# Altium schematic symbol library TI.SchLib: 6 symbols
Pins are listed as number, name and electrical type; pins without a type are passive.

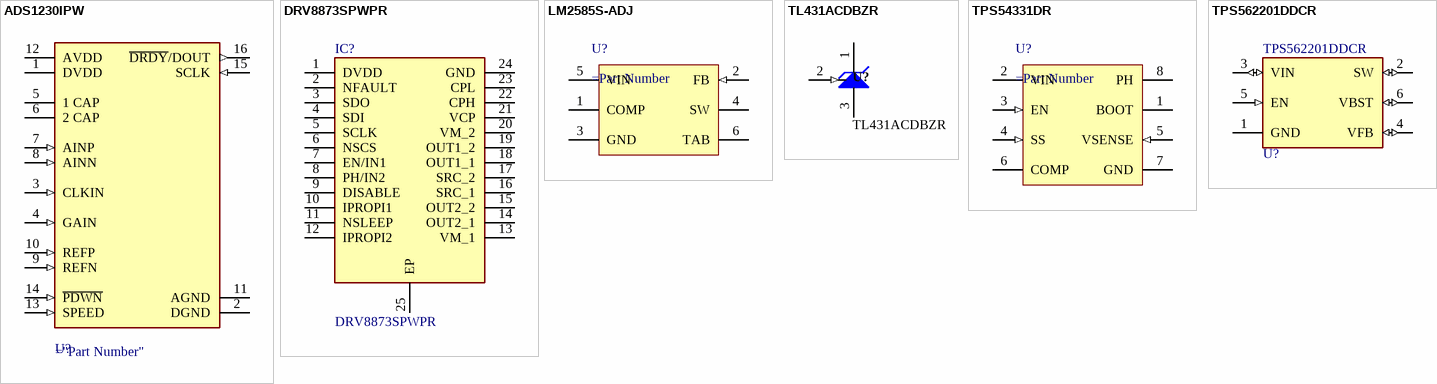
[diagram p0: symbols ADS1230IPW to TPS562201DDCR]

## ADS1230IPW
designator U?
pins: 1 DVDD (power), 2 DGND (power), 3 CLKIN (in), 4 GAIN (in), 5 1 CAP, 6 2 CAP, 7 AINP (in), 8 AINN (in), 9 REFN (in), 10 REFP (in), 11 AGND (power), 12 AVDD (power), 13 SPEED (in), 14 ~{PDWN} (in), 15 SCLK (in), 16 ~{DRDY}/DOUT (out)

## DRV8873SPWPR
designator IC?
Integrated Circuit; Manufacturer_Name: Texas Instruments; Datasheet Link: http://www.ti.com/lit/ds/symlink/drv8873.pdf; Height: 1.2mm; Manufacturer_Part_Number: DRV8873SPWPR; Mouser Part Number: 595-DRV8873SPWPR; Mouser Price/Stock: https://www.mouser.co.uk/ProductDetail/Texas-Instruments/DRV8873SPWPR?qs=0lSvoLzn4L%2FOilSh2RhZEg%3D%3D; Arrow Part Number: DRV8873SPWPR; Arrow Price/Stock: https://www.arrow.com/en/products/drv8873spwpr/texas-instruments?region=nac
pins: 1 DVDD, 2 NFAULT, 3 SDO, 4 SDI, 5 SCLK, 6 NSCS, 7 EN/IN1, 8 PH/IN2, 9 DISABLE, 10 IPROPI1, 11 NSLEEP, 12 IPROPI2, 13 VM_1, 14 OUT2_1, 15 OUT2_2, 16 SRC_1, 17 SRC_2, 18 OUT1_1, 19 OUT1_2, 20 VM_2, 21 VCP, 22 CPH, 23 CPL, 24 GND, 25 EP

## LM2585S-ADJ
designator U?
pins: 1 COMP, 2 FB (in), 3 GND (power), 4 SW (power), 5 VIN (power), 6 TAB

## TL431ACDBZR
designator U?
footprint TI-DBZ3_N
pins: 1 CATHODE, 2 REF (in), 3 ANODE

## TPS54331DR
designator U?
pins: 1 BOOT "A 0.1 uF bootstrap capacitor is required between BOOT and PH. If the voltage on this capacitor falls below the minimum requirement, the high-side MOSFET is forced to switch off until the capacitor is refreshed", 2 VIN (power) "Input supply voltage, 3.5 V to 28 V.", 3 EN (in) "Enable pin. Pull below 1.25V to disable. Float to enable. Programming the input undervoltage lockout with two resistors is recommended.", 4 SS (in) "Slow start pin. An external capacitor connected to this pin sets the output rise time.", 5 VSENSE (in) "Inverting node of the gm error amplifier.", 6 COMP "Error amplifier output, and input to the PWM comparator. Connect frequency compensation components to this pin.", 7 GND (power) "Ground", 8 PH (power) "The source of the internal high-side power MOSFET"

## TPS562201DDCR
designator U?
pins: 1 GND (power), 2 SW (io), 3 VIN (io), 4 VFB (io), 5 EN (in), 6 VBST (io)